# Altium schematic symbol library EwgHybrid.SchLib: 17 symbols
Pins are listed as number, name and electrical type; pins without a type are passive.

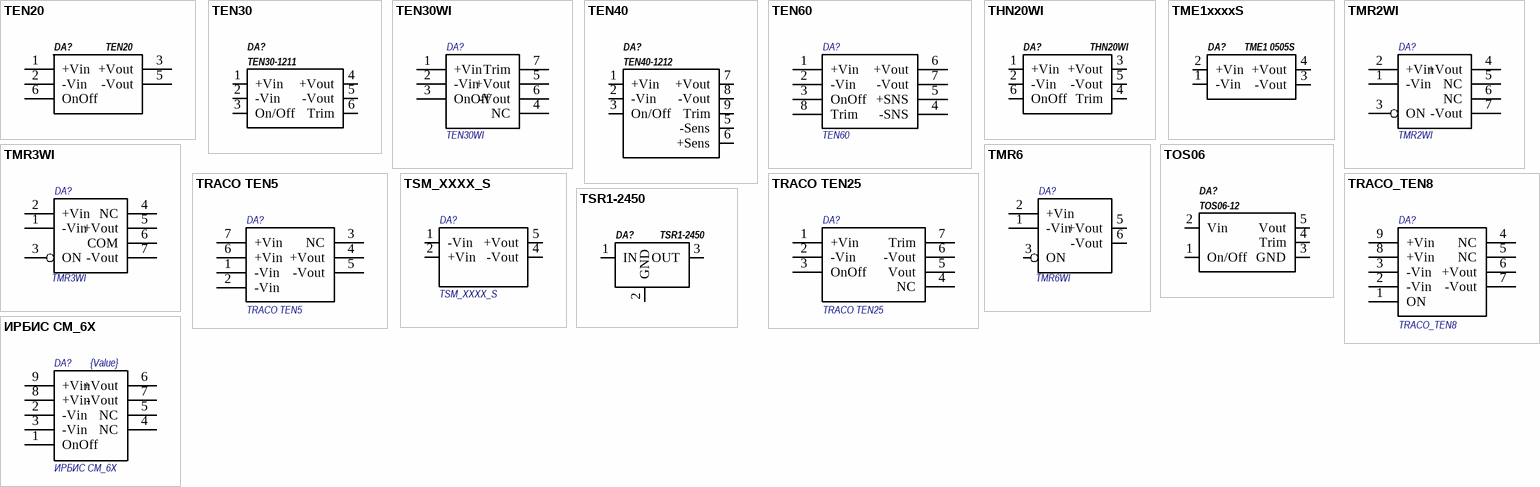
[diagram p0: symbols TEN20 to ИРБИС СМ_6Х]

## TEN20
designator DA?
DC-DC преобразователь; Наименование: Traco Power; Тип монтажа: Штыревой; Тип компонента: DC-DC преобразователь; Value: TEN20
footprint TEN20
pins: 1 +Vin, 2 -Vin, 3 +Vout, 5 -Vout, 6 OnOff

## TEN30
designator DA?, comment TEN30-1211
DC-DC преобразователь; Производитель: Traco Power; Тип монтажа: Штыревой; Характеристики: Вх. 9-18В, вых. 5В 6А; Наименование: TEN30-1211; Тип компонента: DC-DC преобразователь
footprint TEN30
pins: 1 +Vin, 2 -Vin, 3 On/Off, 4 +Vout, 5 -Vout, 6 Trim

## TEN30WI
designator DA?
DC-DC преобразователь; Наименование: Traco Power; Тип монтажа: Штыревой; Тип компонента: DC-DC преобразователь; Value: TEN30WI
footprint TEN30WI
pins: 1 +Vin, 2 -Vin, 3 OnOff, 4 NC, 5 +Vout, 6 -Vout, 7 Trim

## TEN40
designator DA?, comment TEN40-1212
DC-DC преобразователь; Производитель: Traco Power; Тип монтажа: Штыревой; Характеристики: Вх. 9-18В, вых. 12В 3.3А; Наименование: TEN40-1212; Тип компонента: DC-DC преобразователь
footprint TEN30
pins: 1 +Vin, 2 -Vin, 3 On/Off, 5 -Sens, 6 +Sens, 7 +Vout, 8 -Vout, 9 Trim

## TEN60
designator DA?
DC-DC преобразователь; Наименование: Traco Power; Тип монтажа: Штыревой; Тип компонента: DC-DC преобразователь; Value: TEN60
footprint TEN60
pins: 1 +Vin, 2 -Vin, 3 OnOff, 4 -SNS, 5 +SNS, 6 +Vout, 7 -Vout, 8 Trim

## THN20WI
designator DA?
DC-DC преобразователь; Наименование: Traco Power; Тип монтажа: Штыревой; Тип компонента: DC-DC преобразователь; Value: THN20WI
footprint THN20WI
pins: 1 +Vin, 2 -Vin, 3 +Vout, 4 Trim, 5 -Vout, 6 OnOff

## TME1xxxxS
designator DA?, comment TME1 0505S
DC-DC преобразователь; Производитель: Traco Power; Тип корпуса: SIP-4; Тип монтажа: Поверхностный; Характеристики: 5В-5В 200мА 1Вт; Наименование: TME1 0505S; Тип компонента: DC-DC преобразователь
footprint TME1xxxxS (SIP4)
pins: 1 -Vin, 2 +Vin, 3 -Vout, 4 +Vout

## TMR2WI
designator DA?
DC-DC преобразователь; Наименование: Traco Power; Номинал: 2W; Тип монтажа: Штыревой; Тип компонента: DC-DC преобразователь; Value: TMR2WI
footprint TMR2
pins: 1 -Vin, 2 +Vin, 3 ON, 4 +Vout, 5 NC, 6 NC, 7 -Vout

## TMR3WI
designator DA?
DC-DC преобразователь; Наименование: Traco Power; Тип монтажа: Штыревой; Тип компонента: DC-DC преобразователь; Value: TMR3WI
footprint TMR3
pins: 1 -Vin, 2 +Vin, 3 ON, 4 NC, 5 +Vout, 6 COM, 7 -Vout

## TMR6
designator DA?, comment TMR6WI
DC-DC преобразователь; Наименование: Traco Power; Тип монтажа: Штыревой; Тип компонента: DC-DC преобразователь; Value: TMR6WI
footprint TMR3
pins: 1 -Vin, 2 +Vin, 3 ON, 4 NC hidden, 5 +Vout, 6 -Vout, 7 NC hidden

## TOS06
designator DA?, comment TOS06-12
DC-DC преобразователь; Производитель: Traco Power; Тип монтажа: Штыревой; Характеристики: Вх. 8-14В, вых. 0.75-5В 6А; Наименование: TOS06-12; Тип компонента: DC-DC преобразователь
footprint TOS06-SIL
pins: 1 On/Off, 2 Vin, 3 GND, 4 Trim, 5 Vout

## TRACO TEN5
designator DA?
DC-DC преобразователь; Value: {Value}; Наименование: Traco Power; Тип монтажа: Штыревой; Номинал: {Value}; Тип компонента: DC-DC преобразователь
footprint TEN5
pins: 1 -Vin, 2 -Vin, 3 NC, 4 +Vout, 5 -Vout, 6 +Vin, 7 +Vin

## TRACO TEN25
designator DA?
DC-DC преобразователь; Value: {Value}; Наименование: Traco Power; Тип монтажа: Штыревой; Номинал: {Value}; Тип компонента: DC-DC преобразователь
footprint TEN25
pins: 1 +Vin, 2 -Vin, 3 OnOff, 4 NC, 5 Vout, 6 -Vout, 7 Trim

## TRACO_TEN8
designator DA?
DC-DC преобразователь; Value: {Value}; Наименование: Traco Power; Тип монтажа: Штыревой; Номинал: {Value}; Тип компонента: DC-DC преобразователь
footprint TEN8
pins: 1 ON, 2 -Vin, 3 -Vin, 4 NC, 5 NC, 6 +Vout, 7 -Vout, 8 +Vin, 9 +Vin

## TSM_XXXX_S
designator DA?
DC-DC преобразователь; Наименование: Traco Power; Тип монтажа: Поверхностный; Номинал: TSM_XXXX_S; Тип компонента: DC-DC преобразователь; Value: TSM_XXXX_S
footprint TSM0505S
pins: 1 -Vin, 2 +Vin, 3 NC hidden, 4 -Vout, 5 +Vout, 6 NC hidden, 7 NC hidden, 8 NC hidden

## TSR1-2450
designator DA?
DC-DC преобразователь; Value: {Value}; Наименование: TRACO POWER, TSR1; Тип корпуса: TO-220; Номинал: {Value}; Тип компонента: DC-DC преобразователь
footprint TSR1-24XX (SIP3)
pins: 1 IN, 2 GND, 3 OUT

## ИРБИС СМ_6Х
designator DA?  value {Value}
DC-DC преобразователь; Наименование: Ирбис, СМх6х; Тип монтажа: Штыревой; Тип компонента: DC-DC преобразователь
footprint ИРБИС СМ_6Х
pins: 1 OnOff, 2 -Vin, 3 -Vin, 4 NC, 5 NC, 6 +Vout, 7 -Vout, 8 +Vin, 9 +Vin